# Altium schematic symbol library DRV8872DDAR.SchLib: 1 symbol
Pins are listed as number, name and electrical type; pins without a type are passive.

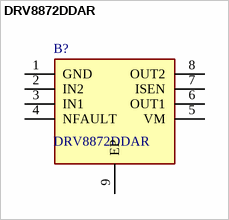
[diagram p0: symbol DRV8872DDAR]

## DRV8872DDAR
designator B?
3.6A Brushed DC Motor Driver With Fault Reporting (PWM Ctrl); Manufacturer_Name: Texas Instruments; Geometry.Height: 1.7mm; Manufacturer_Part_Number: DRV8872DDAR; Mouser Part Number: 595-DRV8872DDAR; Mouser Price/Stock: https://www.mouser.co.uk/ProductDetail/Texas-Instruments/DRV8872DDAR?qs=Fobv33ltQGgHyGKgoxjXAw%3D%3D; Arrow Part Number: DRV8872DDAR; Arrow Price/Stock: https://www.arrow.com/en/products/drv8872ddar/texas-instruments?region=nac; Datasheet Link: http://www.ti.com/lit/gpn/drv8872
footprint SOIC127P600X170-9N
pins: 1 GND, 2 IN2, 3 IN1, 4 NFAULT, 5 VM (power), 6 OUT1, 7 ISEN, 8 OUT2, 9 EP